# Altium footprint library TEXASINSTRUMENTS_PKG_PWP0014J.PcbLib: 1 footprints
Each footprint in its own frame and in the unit in brackets; x right, y up, seen from the top. Pads: shape width x height; smd on the part's side, far side on the other; paste and mask are expansions set on the pad; w line width, h text height; cw(c..) or ccw(c..) is an arc to the next point about the centre after c.
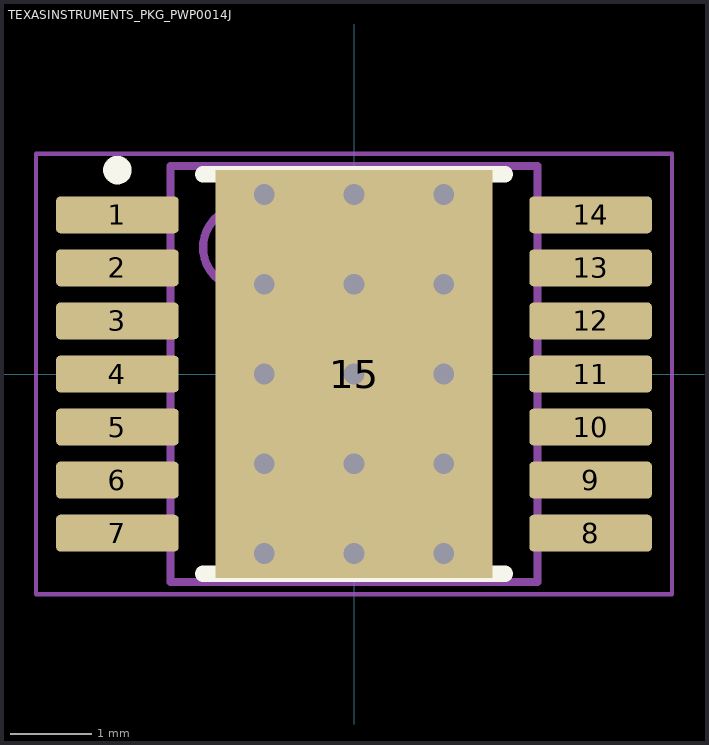
[diagram p0: the footprint, top view; thin cyan lines are the x and y axes]

## TEXASINSTRUMENTS_PKG_PWP0014J [mm] "HTTSOP14, Body 5.00x4.40mm, Pitch 0.65mm, Thermal Pad 3.34x2.94mm, IPC Medium Density"
height 1.2
pads (15):
  rrect22% 1.5x0.45 smd mask+0.05: 1(-2.9,1.95) 2(-2.9,1.3) 3(-2.9,0.65) 4(-2.9,0) 5(-2.9,-0.65) 6(-2.9,-1.3) 7(-2.9,-1.95) 8(2.9,-1.95) 9(2.9,-1.3) 10(2.9,-0.65) 11(2.9,0) 12(2.9,0.65) 13(2.9,1.3) 14(2.9,1.95)
  rect 3.4x5 smd paste-2539.97 mask-2539.97: 15(0,0)
via -1.1,-2.2 diameter 0.584 hole 0.254
via 0,-2.2 diameter 0.584 hole 0.254
via 1.1,-2.2 diameter 0.584 hole 0.254
via 1.1,2.2 diameter 0.584 hole 0.254
via 0,2.2 diameter 0.584 hole 0.254
via -1.1,2.2 diameter 0.584 hole 0.254
via 1.1,-1.1 diameter 0.584 hole 0.254
via 0,-1.1 diameter 0.584 hole 0.254
via -1.1,-1.1 diameter 0.584 hole 0.254
via 1.1,0 diameter 0.584 hole 0.254
via 0,0 diameter 0.584 hole 0.254
via -1.1,0 diameter 0.584 hole 0.254
via 1.1,1.1 diameter 0.584 hole 0.254
via 0,1.1 diameter 0.584 hole 0.254
via -1.1,1.1 diameter 0.584 hole 0.254
Top Overlay:
  circle w0.25: c-2.9,2.5 r0.05
  lines w0.2: -1.85,-2.45 1.85,-2.45 ; -1.85,2.45 1.85,2.45
Top Paste:
  region: -1.47,-1.67 -1.47,1.67 1.47,1.67 1.47,-1.67
Top Solder:
  region: -1.47,-1.67 -1.47,1.67 1.47,1.67 1.47,-1.67
Mechanical 13:
  circle w0.1: c-1.35,1.55 r0.5
  lines w0.1: -2.25,-2.55 2.25,-2.55 2.25,2.55 -2.25,2.55 -2.25,-2.55
Mechanical 15:
  lines w0.05: -3.9,-2.7 3.9,-2.7 3.9,2.7 -3.9,2.7 -3.9,-2.7
  lines w0.1: -0.5,0 0.5,0 ; 0,-0.5 0,0.5
3D body "TEXASINSTRUMENTS_PKG_PWP0014J.stp": height 1, standoff 0, extent -3.21,-2.5 3.21,2.5